# Altium schematic symbol library Sensor_Audio.SchLib: 7 symbols
Pins are listed as number, name and electrical type; pins without a type are passive.

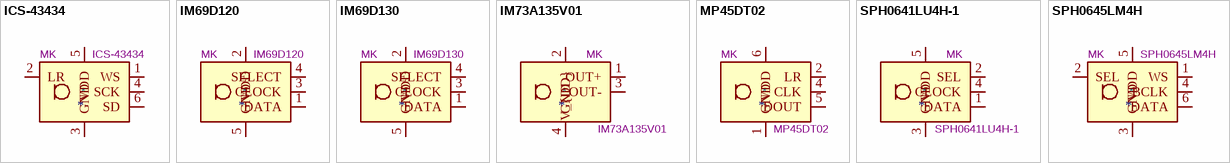
[diagram p0: symbols ICS-43434 to SPH0645LM4H]

## ICS-43434
designator *  value ICS-43434  Reference: MK
ki_keywords: microphone MEMS 24bit I2S ICS-43434 TDK InvenSense; ki_description: TDK InvenSense MEMS Microphone, 24-bit I2S, 65 dBA SNR, LGA-6; ki_fp_filters: InvenSense*ICS*43434*; Footprint: Sensor_Audio:InvenSense_ICS-43434-6_3.5x2.65mm; Datasheet: https://www.invensense.com/wp-content/uploads/2016/02/DS-000069-ICS-43434-v1.2.pdf
pins: 1 WS, 2 LR, 3 GND, 4 SCK, 5 VDD, 6 SD

## IM69D120
designator *  value IM69D120  Reference: MK
ki_keywords: mems microphone; ki_description: High performance digital XENSIV MEMS microphone, -26 dBFS Sensitivity, LLGA-5; ki_fp_filters: Infineon*PG*LLGA*; Footprint: Sensor_Audio:Infineon_PG-LLGA-5-1; Datasheet: https://www.infineon.com/dgdl/Infineon-IM69D120-DS-v01_00-EN.pdf?fileId=5546d462602a9dc801607a0e41a01a2b
pins: 1 DATA, 2 VDD, 3 CLOCK, 4 SELECT, 5 GND

## IM69D130
designator *  value IM69D130  Reference: MK
ki_keywords: mems microphone; ki_description: High performance digital XENSIV MEMS microphone, -36 dBFS Sensitivity, LLGA-5; ki_fp_filters: Infineon*PG*LLGA*; Footprint: Sensor_Audio:Infineon_PG-LLGA-5-1; Datasheet: https://www.infineon.com/dgdl/Infineon-IM69D130-DS-v01_00-EN.pdf?fileId=5546d462602a9dc801607a0e46511a2e
pins: 1 DATA, 2 VDD, 3 CLOCK, 4 SELECT, 5 GND

## IM73A135V01
designator *  value IM73A135V01  Reference: MK
ki_keywords: Microphone MEMS analog; ki_description: IP57 Water and Dust Resistant, Differential MEMS Microphone, 135dBSPL AOP, 73dB SNR, PG-LLGA-5-2; ki_fp_filters: Infineon*PG*LLGA*; Footprint: Sensor_Audio:Infineon_PG-LLGA-5-2; Datasheet: https://www.infineon.com/dgdl/Infineon-IM73A135-DataSheet-v01_00-EN.pdf?fileId=8ac78c8c7f2a768a017fadec36b84500
pins: 1 OUT+, 2 V_{DD}, 3 OUT-, 4 GND, 5 GND hidden

## MP45DT02
designator *  value MP45DT02  Reference: MK
ki_keywords: MEMS Microphone; ki_description: MEMS Omnidirectional Digital Microphone, HLGA-6; ki_fp_filters: ST*HLGA*3.76x4.72mm*P1.65mm*; Footprint: Sensor_Audio:ST_HLGA-6_3.76x4.72mm_P1.65mm; Datasheet: http://www.st.com/st-web-ui/static/active/en/resource/technical/document/datasheet/DM00025467.pdf
pins: 1 GND, 2 LR, 3 GND hidden, 4 CLK, 5 DOUT, 6 VDD

## SPH0641LU4H-1
designator *  value SPH0641LU4H-1  Reference: MK
ki_keywords: Microphone MEMS; ki_description: Digital MEMS Microphone, LGA-5; ki_fp_filters: Knowles*LGA*3.5x2.65mm*; Footprint: Sensor_Audio:Knowles_LGA-5_3.5x2.65mm; Datasheet: https://www.knowles.com/docs/default-source/model-downloads/sph0641lu4h-1-revb.pdf
pins: 1 DATA, 2 SEL, 3 GND, 4 CLOCK, 5 VDD

## SPH0645LM4H
designator *  value SPH0645LM4H  Reference: MK
ki_keywords: microphone MEMS I2S 24bit Knowles SPH0645LM4H Crawford; ki_description: Knowles MEMS Microphone, 24-bit I2S, 65 dBA SNR, LGA-6; ki_fp_filters: Knowles*SPH0645LM4H*; Footprint: Sensor_Audio:Knowles_SPH0645LM4H-6_3.5x2.65mm; Datasheet: https://www.knowles.com/docs/default-source/default-document-library/sph0645lm4h-1-datasheet.pdf
pins: 1 WS, 2 SEL, 3 GND, 4 BCLK, 5 VDD, 6 DATA